# EAGLE library part BMS (library Battery)
Orion BMS 2
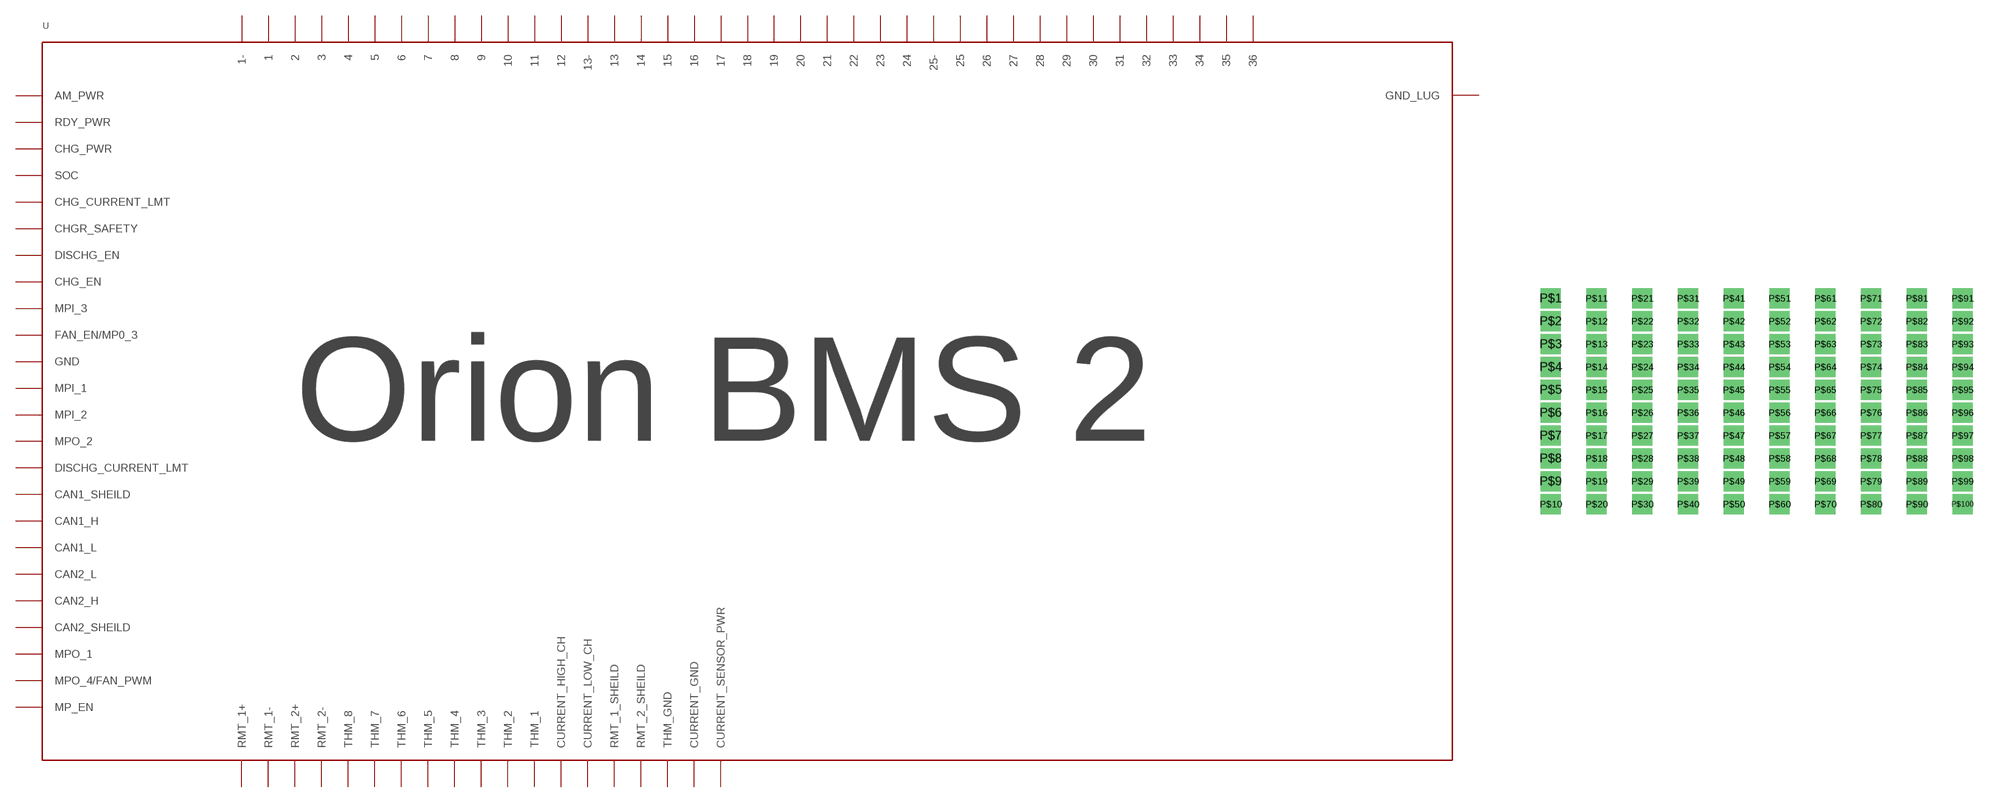
[diagram p0: symbol with the pads of GNERIC_PADS; footprint GNERIC_PADS]

Designator prefix -

## BMSORION_BMS_2  [GNERIC_PADS]
P$1  1
P$2  1-
P$3  2
P$4  3
P$5  4
P$6  5
P$7  6
P$8  7
P$9  8
P$10  9
P$11  10
P$12  11
P$13  12
P$14  13
P$15  13-
P$16  14
P$17  15
P$18  16
P$19  17
P$20  18
P$21  19
P$22  20
P$23  21
P$24  22
P$25  23
P$26  24
P$27  25
P$28  25-
P$29  26
P$30  27
P$31  28
P$32  29
P$33  30
P$34  31
P$35  32
P$36  33
P$37  34
P$38  35
P$39  36
P$40  AM_PWR
P$41  CAN1_H
P$42  CAN1_L
P$43  CAN1_SHEILD
P$44  CAN2_H
P$45  CAN2_L
P$46  CAN2_SHEILD
P$47  CHGR_SAFETY
P$48  CHG_CURRENT_LMT
P$49  CHG_EN
P$50  CHG_PWR
P$51  CURRENT_GND
P$52  CURRENT_HIGH_CH
P$53  CURRENT_LOW_CH
P$54  CURRENT_SENSOR_PWR
P$55  DISCHG_CURRENT_LMT
P$56  DISCHG_EN
P$57  FAN_EN/MP0_3
P$58  GND
P$59  GND_LUG
P$60  MPI_1
P$61  MPI_2
P$62  MPI_3
P$63  MPO_1
P$64  MPO_2
P$65  MPO_4/FAN_PWM
P$66  MP_EN
P$67  RDY_PWR
P$68  RMT_1+
P$69  RMT_1-
P$70  RMT_1_SHEILD
P$71  RMT_2+
P$72  RMT_2-
P$73  RMT_2_SHEILD
P$74  SOC
P$75  THM_1
P$76  THM_2
P$77  THM_3
P$78  THM_4
P$79  THM_5
P$80  THM_6
P$81  THM_7
P$82  THM_8
P$83  THM_GND

## Footprint GNERIC_PADS (pad centres in mm)
drill 0.6 square: P$1 0,0; P$2 0,-1.27; P$3 0,-2.54; P$4 0,-3.81; P$5 0,-5.08; P$6 0,-6.35; P$7 0,-7.62; P$8 0,-8.89; P$9 0,-10.16; P$10 0,-11.43; P$11 2.54,0; P$12 2.54,-1.27; P$13 2.54,-2.54; P$14 2.54,-3.81; P$15 2.54,-5.08; P$16 2.54,-6.35; P$17 2.54,-7.62; P$18 2.54,-8.89; P$19 2.54,-10.16; P$20 2.54,-11.43; P$21 5.08,0; P$22 5.08,-1.27; P$23 5.08,-2.54; P$24 5.08,-3.81; P$25 5.08,-5.08; P$26 5.08,-6.35; P$27 5.08,-7.62; P$28 5.08,-8.89; P$29 5.08,-10.16; P$30 5.08,-11.43; P$31 7.62,0; P$32 7.62,-1.27; P$33 7.62,-2.54; P$34 7.62,-3.81; P$35 7.62,-5.08; P$36 7.62,-6.35; P$37 7.62,-7.62; P$38 7.62,-8.89; P$39 7.62,-10.16; P$40 7.62,-11.43; P$41 10.16,0; P$42 10.16,-1.27; P$43 10.16,-2.54; P$44 10.16,-3.81; P$45 10.16,-5.08; P$46 10.16,-6.35; P$47 10.16,-7.62; P$48 10.16,-8.89; P$49 10.16,-10.16; P$50 10.16,-11.43; P$51 12.7,0; P$52 12.7,-1.27; P$53 12.7,-2.54; P$54 12.7,-3.81; P$55 12.7,-5.08; P$56 12.7,-6.35; P$57 12.7,-7.62; P$58 12.7,-8.89; P$59 12.7,-10.16; P$60 12.7,-11.43; P$61 15.24,0; P$62 15.24,-1.27; P$63 15.24,-2.54; P$64 15.24,-3.81; P$65 15.24,-5.08; P$66 15.24,-6.35; P$67 15.24,-7.62; P$68 15.24,-8.89; P$69 15.24,-10.16; P$70 15.24,-11.43; P$71 17.78,0; P$72 17.78,-1.27; P$73 17.78,-2.54; P$74 17.78,-3.81; P$75 17.78,-5.08; P$76 17.78,-6.35; P$77 17.78,-7.62; P$78 17.78,-8.89; P$79 17.78,-10.16; P$80 17.78,-11.43; P$81 20.32,0; P$82 20.32,-1.27; P$83 20.32,-2.54; P$84 20.32,-3.81; P$85 20.32,-5.08; P$86 20.32,-6.35; P$87 20.32,-7.62; P$88 20.32,-8.89; P$89 20.32,-10.16; P$90 20.32,-11.43; P$91 22.86,0; P$92 22.86,-1.27; P$93 22.86,-2.54; P$94 22.86,-3.81; P$95 22.86,-5.08; P$96 22.86,-6.35; P$97 22.86,-7.62; P$98 22.86,-8.89; P$99 22.86,-10.16; P$100 22.86,-11.43